# Altium integrated library 440054-3.IntLib: 1 symbol
Pins are listed as number, name and electrical type; pins without a type are passive.

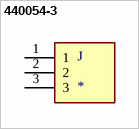
[diagram p0: symbol 440054-3]

## 440054-3
designator J
2.0MM,HDR,3POS,VERTICAL; Product_Type: Connector; MP: 440054-3; Centerline_Pitch: 2 mm[.079 in]; Number_of_Positions: 3; MF: TE Connectivity; Package: None; Availability: Unavailable; TE_purchase_URL: https://www.te.com/usa-en/product-440054-3.html?te_bu=Cor&te_type=disp&te_campaign=seda_glo_cor-seda-global-disp-prtnr-fy19-seda-model-bom-cta_sma-317_1&elqCampaignId=32493; Value: *; EU_RoHS_Compliance: Compliant; SnapEDA_Link: https://www.snapeda.com/parts/440054-3/TE%20Connectivity%20AMP%20Connectors/view-part/942515/?ref=snap; Price: None
footprint TE_440054-3
pins: 1, 2, 3